# Altium integrated library omega.IntLib: 1 symbol
Pins are listed as number, name and electrical type; pins without a type are passive.

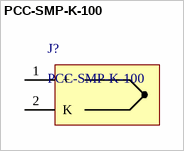
[diagram p0: symbol PCC-SMP-K-100]

## PCC-SMP-K-100
designator J?
Thermocouple Connector
footprint PCC-SMP
pins: 1 +, 2 K